# Altium schematic symbol library RT6150B-33GQW.SchLib: 1 symbol
Pins are listed as number, name and electrical type; pins without a type are passive.

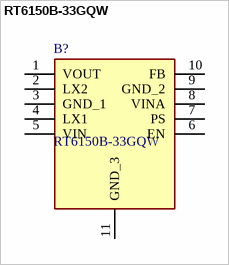
[diagram p0: symbol RT6150B-33GQW]

## RT6150B-33GQW
designator B?
IC REG BCK BST 3.3V 800MA 10WDFN; Manufacturer_Name: RICHTEK; Geometry.Height: 0.8mm; Mouser Part Number: 835-RT6150B-33GQW; Mouser Price/Stock: https://www.mouser.co.uk/ProductDetail/Richtek/RT6150B-33GQW?qs=amGC7iS6iy8r3kS79wnzgg%3D%3D; Manufacturer_Part_Number: RT6150B-33GQW; Datasheet Link: https://datasheet.octopart.com/RT6150B-33GQW-Richtek-datasheet-82510503.pdf
footprint SON50P250X250X80-11N-D
pins: 1 VOUT, 2 LX2, 3 GND_1, 4 LX1, 5 VIN, 6 EN, 7 PS, 8 VINA, 9 GND_2, 10 FB, 11 GND_3